# EAGLE library part C8051F017 (library micro-silabs)
Mixed-Signal 32KB ISP FLASH MCU
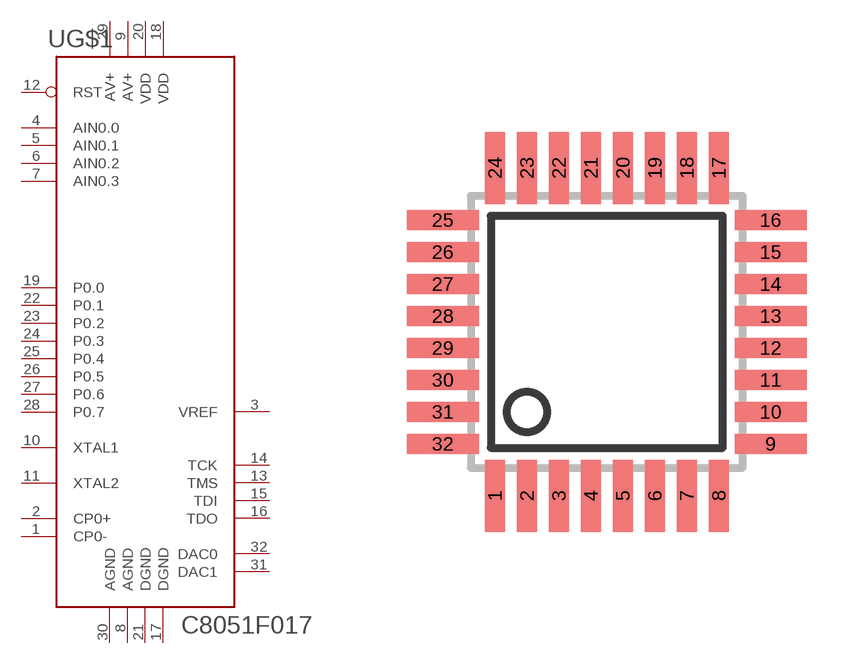
[diagram p23: symbol with the pads of LQFP32; footprint LQFP32]

Designator prefix -; gates G$1=C8051F0XX_32 G$2=AGND G$3=AV G$4=DGND G$5=VDD

## C8051F017  [LQFP32]
1  G$1:CP0-  in
2  G$1:CP0+  in
3  G$1:VREF
4  G$1:AIN0.0
5  G$1:AIN0.1
6  G$1:AIN0.2
7  G$1:AIN0.3
8  G$1:AGND  pwr
9  G$1:AV+  pwr
10  G$1:XTAL1  in
11  G$1:XTAL2  out
12  G$1:RST
13  G$1:TMS  in
14  G$1:TCK  in
15  G$1:TDI  in
16  G$1:TDO  out
17  G$1:DGND  pwr
18  G$1:VDD  pwr
19  G$1:P0.0
20  G$5:VDD  pwr
21  G$4:DGND  pwr
22  G$1:P0.1
23  G$1:P0.2
24  G$1:P0.3
25  G$1:P0.4
26  G$1:P0.5
27  G$1:P0.6
28  G$1:P0.7
29  G$3:AV+  pwr
30  G$2:AGND  pwr
31  G$1:DAC1  out
32  G$1:DAC0  out

## Footprint LQFP32 (pad centres in mm)
Cygnal LQFP32
smd 0.5 x 1.8: 1 -2.8,-4.1; 2 -2,-4.1; 3 -1.2,-4.1; 4 -0.4,-4.1; 5 0.4,-4.1; 6 1.2,-4.1; 7 2,-4.1; 8 2.8,-4.1; 17 2.8,4.1; 18 2,4.1; 19 1.2,4.1; 20 0.4,4.1; 21 -0.4,4.1; 22 -1.2,4.1; 23 -2,4.1; 24 -2.8,4.1
smd 1.8 x 0.5: 9 4.1,-2.8; 10 4.1,-2; 11 4.1,-1.2; 12 4.1,-0.4; 13 4.1,0.4; 14 4.1,1.2; 15 4.1,2; 16 4.1,2.8; 25 -4.1,2.8; 26 -4.1,2; 27 -4.1,1.2; 28 -4.1,0.4; 29 -4.1,-0.4; 30 -4.1,-1.2; 31 -4.1,-2; 32 -4.1,-2.8